# Altium integrated library MTSW-104-22-S-S-405.IntLib: 1 symbol
Pins are listed as number, name and electrical type; pins without a type are passive.

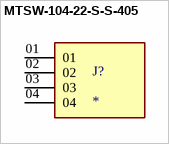
[diagram p0: symbol MTSW-104-22-S-S-405]

## MTSW-104-22-S-S-405
designator J?
MP: MTSW-104-22-S-S-405; Value: *; Availability: Unavailable; Price: None; Package: None
footprint SAMTEC_MTSW-104-22-S-S-405
pins: 01, 02, 03, 04